# EAGLE library part 6871XX182122_687126182122 (library Wurth_Connectors_WR-FPC)
WR-FPC 0.50 mm SMT ZIF Horizontal Dual Contact KIND PROPERTIES Pitch 0.5 mm MATERIAL PROPERTIES Insulator Material LCP Contact Material Phosphor Bronze Contact Plating 80 (µ") Tin over 50 (µ") Nickel Contact Type Stamped Solder Tabs Brass <https://www.we-online.com/catalog/media/o73336v209%20Family_WR-FPC_687186182122.jpg> Details see: https://www.we-online.com/catalog/en/FPC_0_5_SMT_ZIF_HORIZONTAL_DUAL_CONTACT_BACK_LOCKING_6871XX182122/ Updated by Ella Wu 2020-08-26 2020(C) Wurth Elektronik
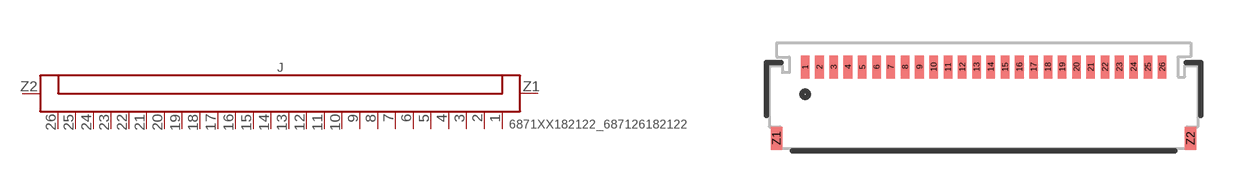
[diagram p218: symbol with the pads of 687126182122; footprint 687126182122]

Designator prefix J

## 6871XX182122_687126182122 (CONTACT-RESISTANCE: 30mOhm; DATASHEET-URL: https://www.we-online.com/catalog/datasheet/687126182122.pdf; IR: 0.5A; L: 15mm; PACKAGING: Tape and Reel; PART-NUMBER: 687126182122; PINS: 26; PITCH: 0.5mm; TYPE: Horizontal; VALUE: 687126182122; WORKING-VOLTAGE: 50V(AC))  [687126182122]
1  1  pas
2  2  pas
3  3  pas
4  4  pas
5  5  pas
6  6  pas
7  7  pas
8  8  pas
9  9  pas
10  10  pas
11  11  pas
12  12  pas
13  13  pas
14  14  pas
15  15  pas
16  16  pas
17  17  pas
18  18  pas
19  19  pas
20  20  pas
21  21  pas
22  22  pas
23  23  pas
24  24  pas
25  25  pas
26  26  pas
Z1  Z1  pas
Z2  Z2  pas

## Footprint 687126182122 (pad centres in mm)
WR-FPC 0.50 mm SMT ZIF Horizontal Dual Contact ,26Pins
smd 0.3 x 0.8: 1 -6.25,1.4; 2 -5.75,1.4; 3 -5.25,1.4; 4 -4.75,1.4; 5 -4.25,1.4; 6 -3.75,1.4; 7 -3.25,1.4; 8 -2.75,1.4; 9 -2.25,1.4; 10 -1.75,1.4; 11 -1.25,1.4; 12 -0.75,1.4; 13 -0.25,1.4; 14 0.25,1.4; 15 0.75,1.4; 16 1.25,1.4; 17 1.75,1.4; 18 2.25,1.4; 19 2.75,1.4; 20 3.25,1.4; 21 3.75,1.4; 22 4.25,1.4; 23 4.75,1.4; 24 5.25,1.4; 25 5.75,1.4; 26 6.25,1.4
smd 0.4 x 0.8: Z1 -7.25,-1.1; Z2 7.25,-1.1